# Altium footprint library Pinger Footprints.PcbLib: 4 footprints
Each footprint in its own frame and in the unit in brackets; x right, y up, seen from the top. Pads: shape width x height; smd on the part's side, far side on the other; paste and mask are expansions set on the pad; w line width, h text height; cw(c..) or ccw(c..) is an arc to the next point about the centre after c.
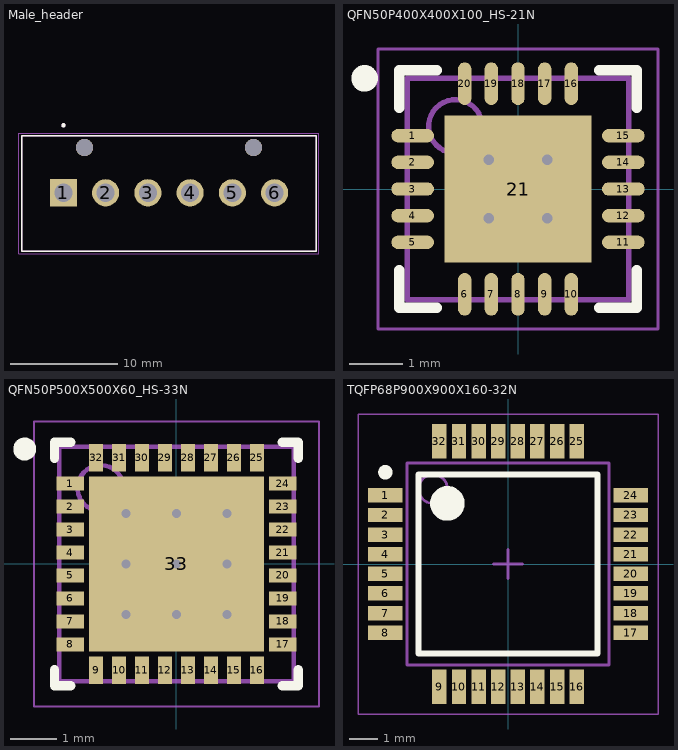
[diagram p0: the footprints below, top view; thin cyan lines are the x and y axes]

## Male_header [mm]
pads (8):
  rect 2.55x2.55 hole 1.7: 1(28.073,-25.908)
  round 2.55 hole 1.7: 2(32.033,-25.908) 3(35.993,-25.908) 4(39.953,-25.908) 5(43.913,-25.908) 6(47.873,-25.908)
  round 1.63 hole 1.63 unplated: None(30.053,-21.668) None(45.893,-21.668)
Top Overlay:
  circle w0.2: c28.073,-19.578 r0.1
  lines w0.127: 24.163,-31.378 24.163,-20.578 51.783,-20.578 51.783,-31.378 24.163,-31.378
Mechanical 4:
  circle w0.2: c28.073,-19.578 r0.1
  circle w0.2: c28.073,-19.578 r0.1
  lines w0.127: 24.163,-31.378 24.163,-20.578 ; 24.163,-31.378 51.783,-31.378 ; 24.163,-31.378 24.163,-20.578 ; 24.163,-31.378 51.783,-31.378 ; 24.163,-20.578 51.783,-20.578 ; 24.163,-20.578 51.783,-20.578 ; 51.783,-31.378 51.783,-20.578 ; 51.783,-31.378 51.783,-20.578
Mechanical 16:
  lines w0.05: 23.913,-31.628 23.913,-20.328 52.033,-20.328 52.033,-31.628 23.913,-31.628

## QFN50P400X400X100_HS-21N [mm] "QFN, 20-Leads, Body 4.00x4.00mm, Pitch 0.50mm, Thermal Pad 2.75x2.75mm, IPC Medium Density"
height 1
pads (21):
  oval 0.8x0.25 smd: 1(-1.975,1) 2(-1.975,0.5) 3(-1.975,0) 4(-1.975,-0.5) 5(-1.975,-1) 11(1.975,-1) 12(1.975,-0.5) 13(1.975,0) 14(1.975,0.5) 15(1.975,1)
  oval 0.25x0.8 smd: 6(-1,-1.975) 7(-0.5,-1.975) 8(0,-1.975) 9(0.5,-1.975) 10(1,-1.975) 16(1,1.975) 17(0.5,1.975) 18(0,1.975) 19(-0.5,1.975) 20(-1,1.975)
  rect 2.75x2.75 smd: 21(0,0)
via 0.55,-0.55 diameter 0.5 hole 0.2
via -0.55,-0.55 diameter 0.5 hole 0.2
via 0.55,0.55 diameter 0.5 hole 0.2
via -0.55,0.55 diameter 0.5 hole 0.2
Top Overlay:
  circle w0.25: c-2.875,2.075 r0.125
  lines w0.2: -2.225,-1.525 -2.225,-2.225 -1.525,-2.225 ; -2.225,1.525 -2.225,2.225 -1.525,2.225 ; 1.525,-2.225 2.225,-2.225 2.225,-1.525 ; 1.525,2.225 2.225,2.225 2.225,1.525
Mechanical 13:
  circle w0.1: c-1.175,1.175 r0.5
  lines w0.1: -2.075,-2.075 2.075,-2.075 2.075,2.075 -2.075,2.075 -2.075,-2.075
Mechanical 15:
  lines w0.05: -2.625,-2.625 2.625,-2.625 2.625,2.625 -2.625,2.625 -2.625,-2.625
  lines w0.1: -0.5,0 0.5,0 ; 0,-0.5 0,0.5
3D body "QFN50P400X400X100_HS-21N.step": height 1, standoff 0, extent -2.085,-2.085 2.085,2.085

## QFN50P500X500X60_HS-33N [mm] "QFN, 32-Leads, Body 5.00x5.00mm, Pitch 0.50mm, Thermal Pad 3.80x3.80mm, IPC Medium Density"
height 0.6
pads (33):
  rect 0.6x0.3 smd: 1(-2.312,1.75) 2(-2.312,1.25) 3(-2.312,0.75) 4(-2.312,0.25) 5(-2.312,-0.25) 6(-2.312,-0.75) 7(-2.312,-1.25) 8(-2.312,-1.75) 17(2.312,-1.75) 18(2.312,-1.25) 19(2.312,-0.75) 20(2.312,-0.25) 21(2.312,0.25) 22(2.312,0.75) 23(2.312,1.25) 24(2.312,1.75)
  rect 0.3x0.6 smd: 9(-1.75,-2.312) 10(-1.25,-2.312) 11(-0.75,-2.312) 12(-0.25,-2.312) 13(0.25,-2.312) 14(0.75,-2.312) 15(1.25,-2.312) 16(1.75,-2.312) 25(1.75,2.312) 26(1.25,2.312) 27(0.75,2.312) 28(0.25,2.312) 29(-0.25,2.312) 30(-0.75,2.312) 31(-1.25,2.312) 32(-1.75,2.312)
  rect 3.8x3.8 smd: 33(0,0)
via -1.1,1.1 diameter 0.5 hole 0.2
via 0,1.1 diameter 0.5 hole 0.2
via 1.1,1.1 diameter 0.5 hole 0.2
via -1.1,0 diameter 0.5 hole 0.2
via 0,0 diameter 0.5 hole 0.2
via 1.1,0 diameter 0.5 hole 0.2
via -1.1,-1.1 diameter 0.5 hole 0.2
via 0,-1.1 diameter 0.5 hole 0.2
via 1.1,-1.1 diameter 0.5 hole 0.2
Top Overlay:
  circle w0.25: c-3.3,2.5 r0.125
  lines w0.2: -2.65,-2.3 -2.65,-2.65 -2.3,-2.65 ; -2.65,2.3 -2.65,2.65 -2.3,2.65 ; 2.3,-2.65 2.65,-2.65 2.65,-2.3 ; 2.3,2.65 2.65,2.65 2.65,2.3
Mechanical 13:
  circle w0.1: c-1.65,1.65 r0.5
  lines w0.1: -2.55,-2.55 -2.55,2.55 2.55,2.55 2.55,-2.55 -2.55,-2.55
Mechanical 15:
  lines w0.05: -3.1,-3.1 -3.1,3.1 3.1,3.1 3.1,-3.1 -3.1,-3.1
  lines w0.1: -0.5,0 0.5,0 ; 0,-0.5 0,0.5
3D body "QFN50P500X500X60_HS-33N.step": height 0.6, standoff 0, extent -2.6,-2.6 2.6,2.6

## TQFP68P900X900X160-32N [mm] "TQFP, 32-Leads, Body 7.00x7.00mm, Pitch 0.68mm, IPC Medium Density"
height 1.6
pads (32):
  rect 1.2x0.5 smd: 1(-4.25,2.38) 2(-4.25,1.7) 3(-4.25,1.02) 4(-4.25,0.34) 5(-4.25,-0.34) 6(-4.25,-1.02) 7(-4.25,-1.7) 8(-4.25,-2.38) 17(4.25,-2.38) 18(4.25,-1.7) 19(4.25,-1.02) 20(4.25,-0.34) 21(4.25,0.34) 22(4.25,1.02) 23(4.25,1.7) 24(4.25,2.38)
  rect 0.5x1.2 smd: 9(-2.38,-4.25) 10(-1.7,-4.25) 11(-1.02,-4.25) 12(-0.34,-4.25) 13(0.34,-4.25) 14(1.02,-4.25) 15(1.7,-4.25) 16(2.38,-4.25) 25(2.38,4.25) 26(1.7,4.25) 27(1.02,4.25) 28(0.34,4.25) 29(-0.34,4.25) 30(-1.02,4.25) 31(-1.7,4.25) 32(-2.38,4.25)
Top Overlay:
  circle w0.6: c-2.1,2.1 r0.3
  circle w0.25: c-4.25,3.18 r0.125
  lines w0.2: -3.1,-3.1 3.1,-3.1 3.1,3.1 -3.1,3.1 -3.1,-3.1
Mechanical 13:
  circle w0.1: c-2.6,2.6 r0.5
  lines w0.1: -3.5,-3.5 3.5,-3.5 3.5,3.5 -3.5,3.5 -3.5,-3.5
Mechanical 15:
  lines w0.05: -5.2,-5.2 5.2,-5.2 5.2,5.2 -5.2,5.2 -5.2,-5.2
  lines w0.1: -0.5,0 0.5,0 ; 0,-0.5 0,0.5
3D body "TQFP68P900X900X160-32N.step": height 1.6, standoff 0, extent -4.5,-4.5 4.5,4.5